# Altium schematic symbol library Diode_Vishay_General_Semiconductor_V8PAL50-M3-I_eec.SchLib: 1 symbol
Pins are listed as number, name and electrical type; pins without a type are passive.

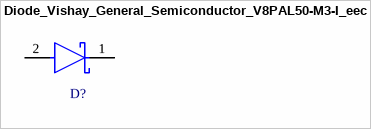
[diagram p0: symbol Diode_Vishay_General_Semiconductor_V8PAL50-M3-I_eec]

## Diode_Vishay_General_Semiconductor_V8PAL50-M3-I_eec
designator D?
Diode Schottky 50V 4A Surface Mount DO-221BC (SMPA); Part Number: V8PAL50-M3/I; Manufacturer: Vishay General Semiconductor; helpURL: https://upverter.com/upn/revision/ec6bf4eadcc926ae/; ComponentLink2Description: Datasheet; Temperature: -40°C to +150°C; Package: SMPA; Supplier 2: Mouser; Supplier 1: Digi-Key; ComponentLink1URL: https://upverter.com/upn/revision/ec6bf4eadcc926ae/; Supplier Part Number 2: 78-V8PAL50-M3/I; Supplier Part Number 1: V8PAL50-M3/ICT-ND; ComponentLink1Description: Upverter; ComponentLink2URL: http://www.vishay.com/docs/87912/v8pal50.pdf; RoHS: TRUE; Mouser Part Number: 78-V8PAL50-M3/I; Temperature Range High: +150°C; Digikey Description: Diode Schottky 50V 4A Surface Mount DO-221BC (SMPA); Digikey Part Number: V8PAL50-M3/ICT-ND; Current - Average Rectified (Io): 4A; Lead Free: yes; Voltage - DC Reverse (Vr) (Max): 50V; Mfg Package Ident: SMPA; Temperature Range Low: -40°C
footprint Vishay_General_Semiconductor_SMPA_0
pins: 1 C, 2 A